# Altium schematic symbol library 3296X-1-103.SchLib: 1 symbol
Pins are listed as number, name and electrical type; pins without a type are passive.

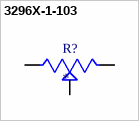
[diagram p0: symbol 3296X-1-103]

## 3296X-1-103
designator R?
SFERNICE POTENTIOMETERS & TRIMME; MP: TS63Y253KR10; MF: Vishay Sfernice; Value: *; SnapEDA_Link: https://www.snapeda.com/parts/TS63Y253KR10/Vishay/view-part/?ref=snap; Availability: In Stock; Package: SMD Vishay Sfernice; Price: None; Check_prices: https://www.snapeda.com/parts/TS63Y253KR10/Vishay/view-part/?ref=eda; Purchase-URL: https://pricing.snapeda.com/search/part/TS63Y253KR10/?ref=eda
footprint 3296X1223LF
pins: 1 A, 2 B, 3 C